# EAGLE library part LT4356 (library linear)
Linear LT4356 Surge Stopper Datasheet <https://cds.linear.com/docs/en/datasheet/4356fa.pdf>
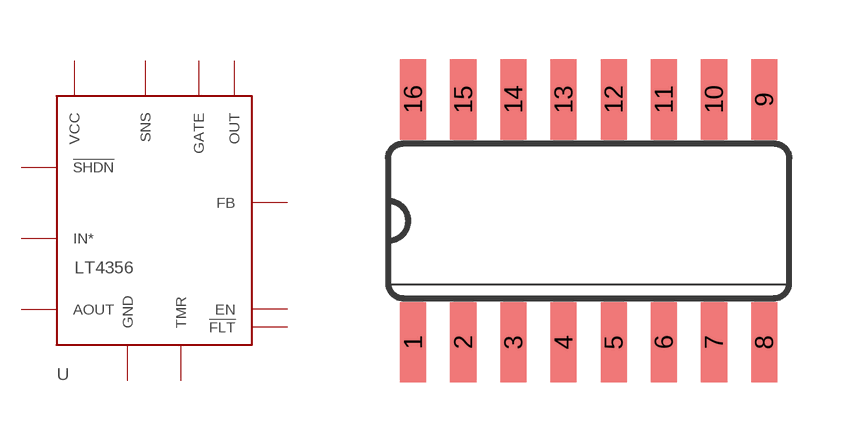
[diagram p326: symbol with the pads of SO16; footprint SO16]

Designator prefix -

## LT4356S  [SO16]
1  TMR
2  FB
4  OUT
5  GATE
7  SNS
8  VCC
9  !SHDN!
10  !FLT!
11  EN
12  GND
14  AOUT
16  IN*

## Footprint SO16 (pad centres in mm)
Small Outline Package 16
smd 0.66 x 2.032: 1 -4.445,-3.073; 2 -3.175,-3.073; 3 -1.905,-3.073; 4 -0.635,-3.073; 5 0.635,-3.073; 6 1.905,-3.073; 7 3.175,-3.073; 8 4.445,-3.073; 9 4.445,3.073; 10 3.175,3.073; 11 1.905,3.073; 12 0.635,3.073; 13 -0.635,3.073; 14 -1.905,3.073; 15 -3.175,3.073; 16 -4.445,3.073